# Altium footprint library Filters.PcbLib: 24 footprints (part 2 of 2)
Each footprint in its own frame and in the unit in brackets; x right, y up, seen from the top. Pads: shape width x height; smd on the part's side, far side on the other; paste and mask are expansions set on the pad; w line width, h text height; cw(c..) or ccw(c..) is an arc to the next point about the centre after c.
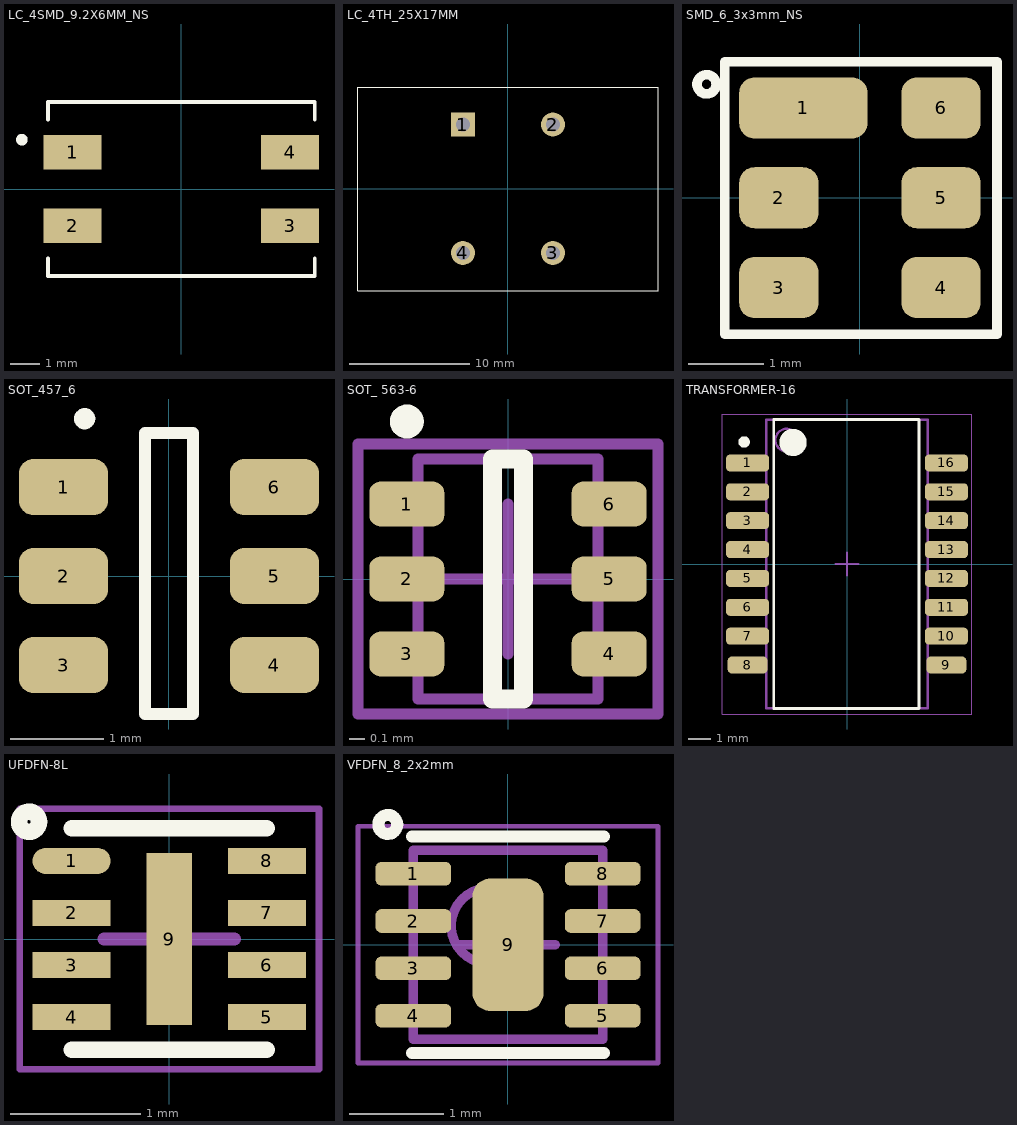
[diagram p1: the footprints below, top view; thin cyan lines are the x and y axes]

## LC_4SMD_9.2X6MM_NS [mm] "20220221 / E.Naranjo"
pads (4):
  rect 2x1.2 smd: 1(-3.75,1.27) 2(-3.75,-1.27) 3(3.75,-1.27) 4(3.75,1.27)
Top Overlay:
  circle w0.2: c-5.5,1.7 r0.1
  lines w0.127: -4.6,-2.4 -4.6,-3 4.6,-3 4.6,-2.4 ; -4.6,2.4 -4.6,3 4.6,3 4.6,2.4
3D body "srf0905-100y.stp": height 4.8, standoff 0, extent -4.671,-3.004 4.53,2.996

## LC_4TH_25X17MM [mm] "/20220520/F-A.Ospina"
pads (4):
  rect 2x2 hole 1.143: 1(-3.75,5.35)
  round 2 hole 1.143: 2(3.75,5.35) 3(3.75,-5.35) 4(-3.75,-5.35)
Top Overlay:
  lines w0.1: -12.49,-8.493 -12.49,8.449 12.5,8.449 12.5,-8.493 -12.49,-8.493
3D body "744823210_STP_744823210_rev1.stp": height 20.9, standoff -5.2, extent -10.097,-6.441 10.021,6.559

## SMD_6_3x3mm_NS [mm] "SMD-6, No lead / 20190225 / C-A.Serna.A"
height 1.38
pads (6):
  rrect50% 1.7x0.81 smd: 1(-0.75,1.19)
  rrect50% 1.05x0.81 smd: 2(-1.075,0) 3(-1.075,-1.19) 4(1.075,-1.19) 5(1.075,0) 6(1.075,1.19)
Top Overlay:
  circle w0.127: c-2.031,1.503 r0.127
  lines w0.127: -1.791,-1.807 -1.791,1.8 1.815,1.8 1.815,-1.807 -1.791,-1.807
3D body: height 1.4, standoff 0.1, extent -1.461,-1.528 1.511,1.469

## SOT_457_6 [mm] "/20210713/C-D Viveros"
pads (6):
  rrect50% 0.95x0.6 smd: 1(-1.125,0.95) 2(-1.125,0) 3(-1.125,-0.95) 4(1.125,-0.95) 5(1.125,0) 6(1.125,0.95)
Top Overlay:
  circle w0.127: c-0.9,1.679 r0.05
  lines w0.127: -0.258,-1.473 -0.258,1.527 0.258,1.527 0.258,-1.473 -0.258,-1.473
3D body "STF202-22T1G.STEP": height 1.1, standoff 0, extent -1.409,-1.475 1.341,1.525

## SOT_ 563-6 [mm] "SOT - 563 , SOT -666 / 20191209 / N-A.Potosi"
height 1
pads (6):
  rrect50% 0.5x0.3 smd: 1(-0.675,0.5) 2(-0.675,0) 3(-0.675,-0.5) 4(0.675,-0.5) 5(0.675,0) 6(0.675,0.5)
Top Overlay:
  circle w0.127: c-0.675,1.05 r0.05
  lines w0.127: -0.104,-0.8 0.104,-0.8 0.104,0.8 -0.104,0.8 -0.104,-0.8
Mechanical 1:
  lines w0.076: -0.6,-0.8 0.6,-0.8 0.6,0.8 -0.6,0.8 -0.6,-0.8
Mechanical 15:
  lines w0.076: -0.5,0 0.5,0 ; 0,-0.5 0,0.5 ; -1,-0.9 -1,0.9 1,0.9 1,-0.9 -1,-0.9
3D body: height 0.6, standoff 0, extent -0.6,-0.8 0.6,0.8

## TRANSFORMER-16 [mm] "/20200715/N-A.Potosi"
pads (16):
  rrect50% 1.9x0.75 smd: 1(-4.375,4.445) 2(-4.375,3.175) 3(-4.375,1.905) 4(-4.375,0.635) 5(-4.375,-0.635) 6(-4.375,-1.905) 7(-4.375,-3.175) 10(4.375,-3.175) 11(4.375,-1.905) 12(4.375,-0.635) 13(4.375,0.635) 14(4.375,1.905) 15(4.375,3.175) 16(4.375,4.445)
  rrect50% 1.75x0.75 smd: 8(-4.375,-4.445) 9(4.375,-4.445)
Top Overlay:
  circle w0.6: c-2.375,5.35 r0.3
  circle w0.25: c-4.525,5.37 r0.125
  lines w0.127: -3.221,-6.35 3.173,-6.35 3.173,6.35 -3.221,6.35 -3.221,-6.35
Mechanical 1:
  circle w0.1: c-2.65,5.45 r0.5
  lines w0.1: -3.55,-6.35 -3.55,6.35 3.55,6.35 3.55,-6.35 -3.55,-6.35
Mechanical 15:
  lines w0.05: -5.5,-6.6 5.5,-6.6 5.5,6.6 -5.5,6.6 -5.5,-6.6
  lines w0.1: -0.5,0 0.5,0 ; 0,-0.5 0,0.5
3D body: height 2.29, standoff 0.15, extent -3.55,-6.35 3.55,6.35

## UFDFN-8L [mm] "DFN, 8-Leads/20200727/M-C.Calderon"
height 0.5
pads (9):
  oval 0.6x0.2 smd mask+0.03: 1(-0.75,0.6)
  rect 0.6x0.2 smd mask+0.03: 2(-0.75,0.2) 3(-0.75,-0.2) 4(-0.75,-0.6) 5(0.75,-0.6) 6(0.75,-0.2) 7(0.75,0.2) 8(0.75,0.6)
  rect 0.35x1.32 smd mask+0.03: 9(0,0)
Top Overlay:
  circle w0.127: c-1.077,0.9 r0.077
  lines w0.127: -0.75,-0.85 0.75,-0.85 ; -0.75,0.85 0.75,0.85
Mechanical 15:
  lines w0.05: -1.15,-1 1.15,-1 1.15,1 -1.15,1 -1.15,-1
  lines w0.1: -0.5,0 0.5,0 ; 0,-0.5 0,0.5
3D body: height 0.65, standoff 0, extent -0.75,-0.85 0.75,0.85

## VFDFN_8_2x2mm [mm] "8-VFDFN / 20190225 / C-A.Serna.A"
height 1
pads (9):
  rrect50% 0.8x0.25 smd mask+0.05: 1(-1,0.75) 2(-1,0.25) 3(-1,-0.25) 4(-1,-0.75) 5(1,-0.75) 6(1,-0.25) 7(1,0.25) 8(1,0.75)
  rrect50% 0.75x1.4 smd mask+0.05: 9(0,0)
Top Overlay:
  circle w0.127: c-1.27,1.27 r0.1
  lines w0.127: -1.016,-1.143 1.016,-1.143 ; -1.016,1.143 1.016,1.143
Mechanical 1:
  circle w0.1: c-0.2,0.2 r0.4
  lines w0.1: -1,-1 -1,1 1,1 1,-1 -1,-1
Mechanical 15:
  lines w0.05: -1.585,-1.25 1.585,-1.25 1.585,1.25 -1.585,1.25 -1.585,-1.25
  lines w0.1: -0.5,0 0.5,0 ; 0,-0.5 0,0.5
3D body: height 1, standoff 0.1, extent -1,-1 1,1